# Altium integrated library TI Data Converters Digital to Analog Converter.IntLib: 1533 symbols (part 35 of 99)
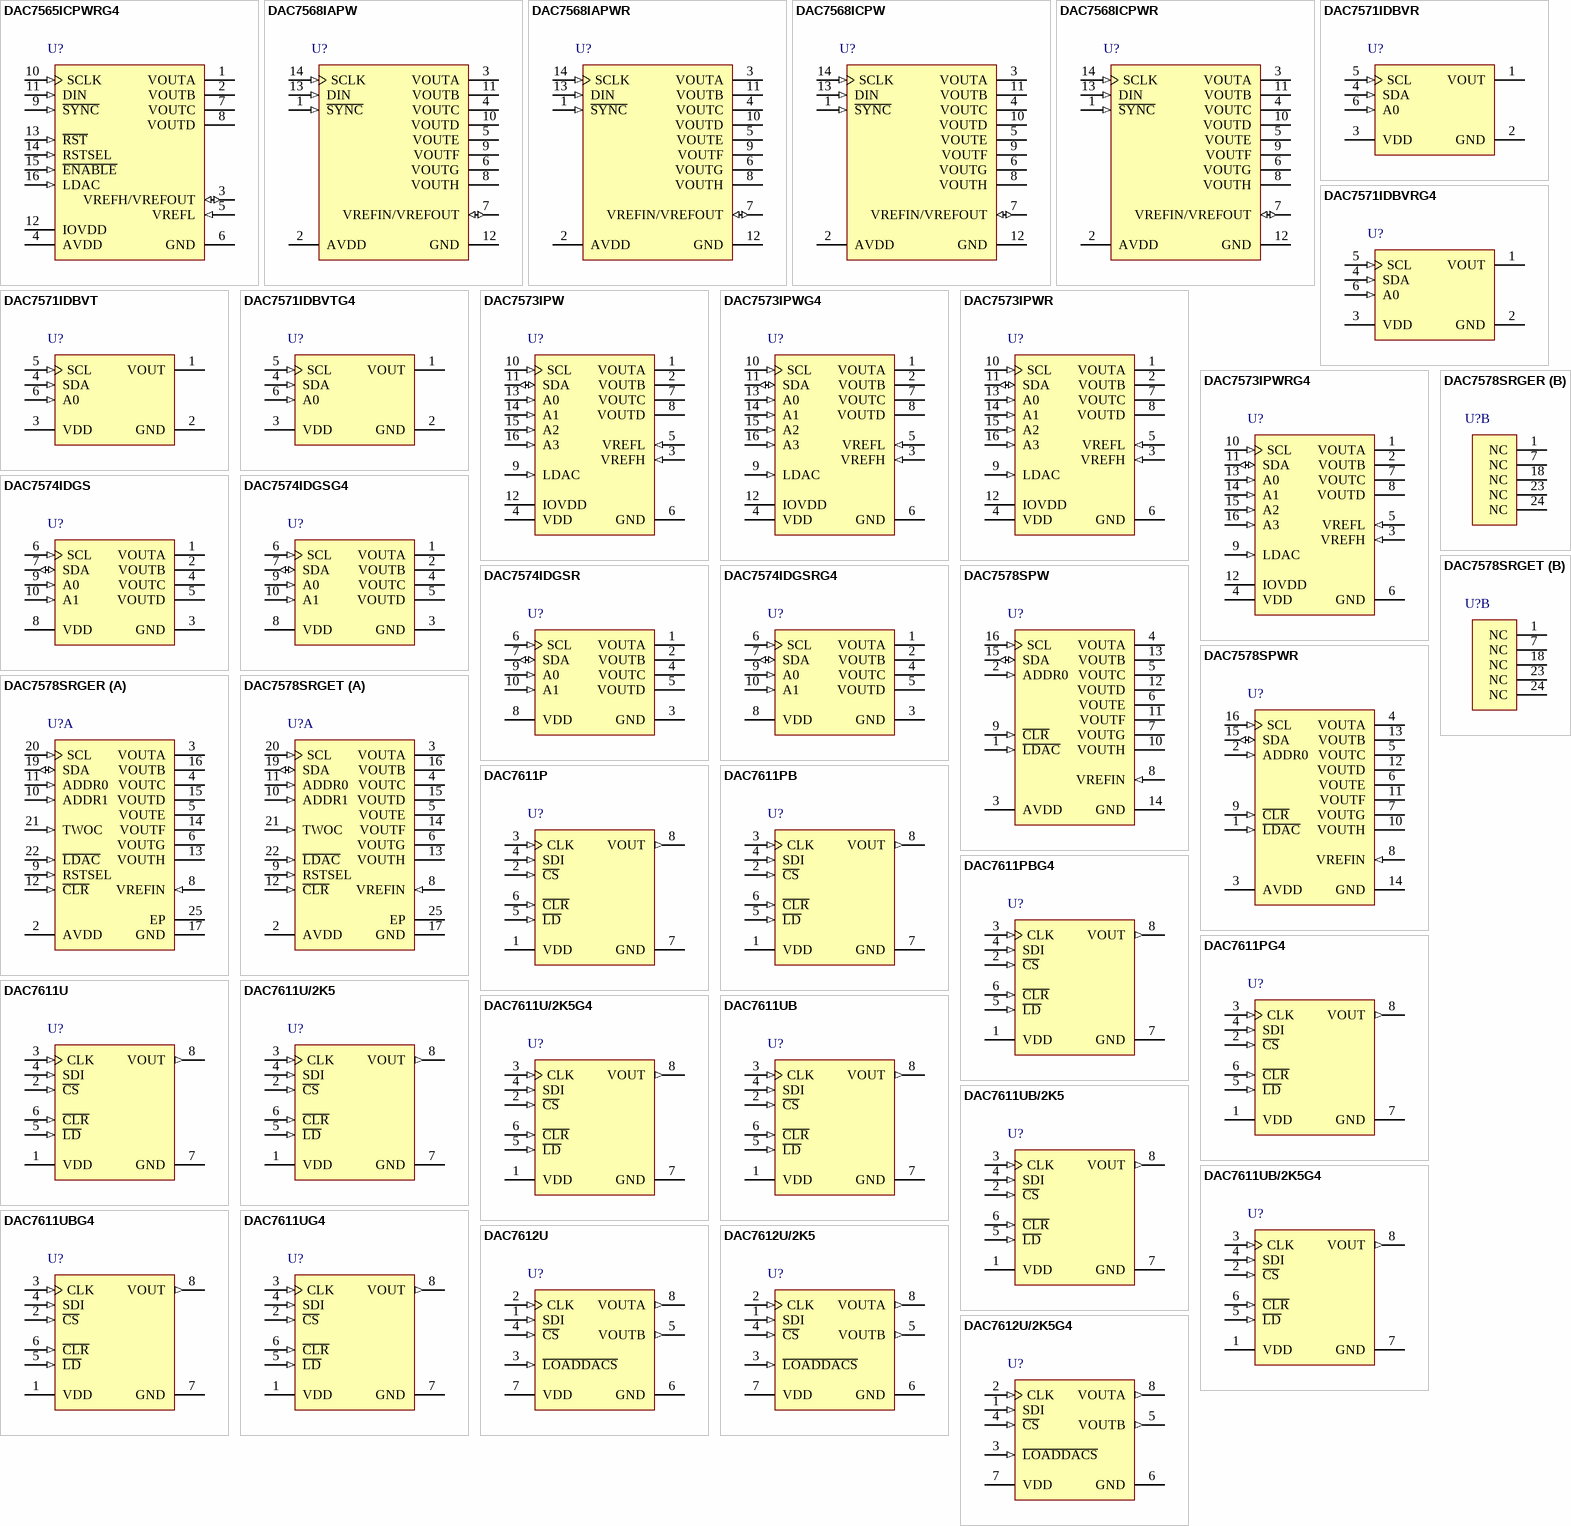
[diagram p107: symbols DAC7565ICPWRG4 to DAC7612U/2K5G4]

## DAC7573IPWRG4
designator U?
Quad, 12-Bit, 10 us, DAC with I2C Digital Interface, -40 to 85 degC, 16-pin SOP (PW16), Green (RoHS & no Sb/Br); Manufacturer: Texas Instruments; PartNumber: DAC7573IPWRG4; DAC Channels: 4; DNL(Max)(+/-LSB): 1; INL(Max)(+/-LSB): 8; Interface: Serial I2C; Power Consumption(Typ)(mW): 1.8; Resolution(Bits): 12; Settling Time(us): 10; SubFamily: Precision DAC (=<10MSPS); DatasheetVersion: SLAS398; PackageVersion: 4040064-4/G, 02/2011; PackageReference: PW16; PackageDescription: 16-Pin Plastic Small Outline, Body 5 x 4.4 mm, Pitch 0.65 mm; Supplier 1: Digi-Key; Supplier Part Number 1: DAC7573IPWRG4-ND; Supplier 2: Mouser; Supplier Part Number 2: 595-DAC7573IPWRG4; Eco-Plan: Green (RoHS & no Sb/Br); Mounting Technology: Surface Mount; Code_JEDEC: MO-153; ComponentLink1Description: Manufacturer URL; ComponentLink1URL: http://www.ti.com/; ComponentLink2Description: Datasheet; ComponentLink2URL: http://www.ti.com/general/docs/lit/getliterature.tsp?genericPartNumber=DAC7573&fileType=pdf; ComponentLink3Description: Package Specification; ComponentLink3URL: http://www.ti.com/lit/ml/mpds361/mpds361.pdf
footprint TI-PW16_N (SOP, 16-Leads, Body 5x4.4mm, Pitch 0.65mm, IPC Medium Density)
footprint TI-PW16_L (SOP, 16-Leads, Body 5x4.4mm, Pitch 0.65mm, IPC High Density)
footprint TI-PW16_M (SOP, 16-Leads, Body 5x4.4mm, Pitch 0.65mm, IPC Low Density)
pins: 1 VOUTA (hiz) "Analog output voltage from DAC A", 2 VOUTB (hiz) "Analog output voltage from DAC B", 3 VREFH (in) "Positive reference voltage input", 4 VDD (power) "Analog voltage supply input", 5 VREFL (in) "Negative reference voltage input", 6 GND (power) "Ground reference point for all circuitry on the part", 7 VOUTC (hiz) "Analog output voltage from DAC C", 8 VOUTD (hiz) "Analog output voltage from DAC D", 9 LDAC (in) "H/W synchronous VOUT update", 10 SCL (in) "Serial clock input", 11 SDA (io) "Serial data input", 12 IOVDD (power) "I/O voltage supply input", 13 A0 (in) "Device address select - I2C", 14 A1 (in) "Device address select - I2C", 15 A2 (in) "Device address select - Extended", 16 A3 (in) "Device address select - Extended"

## DAC7574IDGS
designator U?
12-Bit Quad Voltage Output DAC with I2C Interface, -40 to 105 degC, 10-pin SOP (DGS10), Green (RoHS & no Sb/Br); Manufacturer: Texas Instruments; PartNumber: DAC7574IDGS; DAC Channels: 4; DNL(Max)(+/-LSB): 1; INL(Max)(+/-LSB): 8; Interface: Serial I2C; Power Consumption(Typ)(mW): 0.85; Resolution(Bits): 12; Settling Time(us): 10; SubFamily: Precision DAC (=<10MSPS); DatasheetVersion: SLAS375; PackageVersion: 4073272/C, 02/2004; PackageReference: DGS10; PackageDescription: 10-Pin Plastic Small Outline, Body 3 x 3 mm, Pitch 0.5 mm; Supplier 1: Digi-Key; Supplier Part Number 1: 296-26048-5-ND; Supplier 2: Newark; Supplier Part Number 2: 73H4185; Supplier 3: Mouser; Supplier Part Number 3: 595-DAC7574IDGS; Eco-Plan: Green (RoHS & no Sb/Br); Mounting Technology: Surface Mount; Code_JEDEC: MO-153; ComponentLink1Description: Manufacturer URL; ComponentLink1URL: http://www.ti.com/; ComponentLink2Description: Datasheet; ComponentLink2URL: http://www.ti.com/general/docs/lit/getliterature.tsp?genericPartNumber=DAC7574&fileType=pdf; ComponentLink3Description: Package Specification; ComponentLink3URL: http://www.ti.com/lit/ml/mpds035b/mpds035b.pdf
footprint TI-DGS10_N (SOP, 10-Leads, Body 3x3mm, Pitch 0.5mm, IPC Medium Density)
footprint TI-DGS10_L (SOP, 10-Leads, Body 3x3mm, Pitch 0.5mm, IPC High Density)
footprint TI-DGS10_M (SOP, 10-Leads, Body 3x3mm, Pitch 0.5mm, IPC Low Density)
pins: 1 VOUTA (hiz) "Analog output voltage from DAC A", 2 VOUTB (hiz) "Analog output voltage from DAC B", 3 GND (power) "Ground reference point for all circuitry on the part", 4 VOUTC (hiz) "Analog output voltage from DAC C", 5 VOUTD (hiz) "Analog output voltage from DAC D", 6 SCL (in) "Serial clock input", 7 SDA (io) "Serial data input and output", 8 VDD (power) "Analog voltage supply input", 9 A0 (in) "Device address select - I2C", 10 A1 (in) "Device address select - I2C"

## DAC7574IDGSG4
designator U?
12-Bit Quad Voltage Output DAC with I2C Interface, -40 to 105 degC, 10-pin SOP (DGS10), Green (RoHS & no Sb/Br); Manufacturer: Texas Instruments; PartNumber: DAC7574IDGSG4; DAC Channels: 4; DNL(Max)(+/-LSB): 1; INL(Max)(+/-LSB): 8; Interface: Serial I2C; Power Consumption(Typ)(mW): 0.85; Resolution(Bits): 12; Settling Time(us): 10; SubFamily: Precision DAC (=<10MSPS); DatasheetVersion: SLAS375; PackageVersion: 4073272/C, 02/2004; PackageReference: DGS10; PackageDescription: 10-Pin Plastic Small Outline, Body 3 x 3 mm, Pitch 0.5 mm; Supplier 1: Digi-Key; Supplier Part Number 1: DAC7574IDGSG4-ND; Supplier 2: Farnell; Supplier Part Number 2: 1206855; Supplier 3: Newark; Supplier Part Number 3: 96K8419; Supplier 4: Mouser; Supplier Part Number 4: 595-DAC7574IDGSG4; Eco-Plan: Green (RoHS & no Sb/Br); Mounting Technology: Surface Mount; Code_JEDEC: MO-153; ComponentLink1Description: Manufacturer URL; ComponentLink1URL: http://www.ti.com/; ComponentLink2Description: Datasheet; ComponentLink2URL: http://www.ti.com/general/docs/lit/getliterature.tsp?genericPartNumber=DAC7574&fileType=pdf; ComponentLink3Description: Package Specification; ComponentLink3URL: http://www.ti.com/lit/ml/mpds035b/mpds035b.pdf
footprint TI-DGS10_N (SOP, 10-Leads, Body 3x3mm, Pitch 0.5mm, IPC Medium Density)
footprint TI-DGS10_L (SOP, 10-Leads, Body 3x3mm, Pitch 0.5mm, IPC High Density)
footprint TI-DGS10_M (SOP, 10-Leads, Body 3x3mm, Pitch 0.5mm, IPC Low Density)
pins: 1 VOUTA (hiz) "Analog output voltage from DAC A", 2 VOUTB (hiz) "Analog output voltage from DAC B", 3 GND (power) "Ground reference point for all circuitry on the part", 4 VOUTC (hiz) "Analog output voltage from DAC C", 5 VOUTD (hiz) "Analog output voltage from DAC D", 6 SCL (in) "Serial clock input", 7 SDA (io) "Serial data input and output", 8 VDD (power) "Analog voltage supply input", 9 A0 (in) "Device address select - I2C", 10 A1 (in) "Device address select - I2C"

## DAC7574IDGSR
designator U?
12-Bit Quad Voltage Output DAC with I2C Interface, -40 to 105 degC, 10-pin SOP (DGS10), Green (RoHS & no Sb/Br); Manufacturer: Texas Instruments; PartNumber: DAC7574IDGSR; DAC Channels: 4; DNL(Max)(+/-LSB): 1; INL(Max)(+/-LSB): 8; Interface: Serial I2C; Power Consumption(Typ)(mW): 0.85; Resolution(Bits): 12; Settling Time(us): 10; SubFamily: Precision DAC (=<10MSPS); DatasheetVersion: SLAS375; PackageVersion: 4073272/C, 02/2004; PackageReference: DGS10; PackageDescription: 10-Pin Plastic Small Outline, Body 3 x 3 mm, Pitch 0.5 mm; Supplier 1: Digi-Key; Supplier Part Number 1: 296-15227-2-ND; Supplier 2: Digi-Key; Supplier Part Number 2: 296-15227-1-ND; Supplier 3: Digi-Key; Supplier Part Number 3: 296-15227-6-ND; Supplier 4: Newark; Supplier Part Number 4: 73H4186; Supplier 5: Mouser; Supplier Part Number 5: 595-DAC7574IDGSR; Eco-Plan: Green (RoHS & no Sb/Br); Mounting Technology: Surface Mount; Code_JEDEC: MO-153; ComponentLink1Description: Manufacturer URL; ComponentLink1URL: http://www.ti.com/; ComponentLink2Description: Datasheet; ComponentLink2URL: http://www.ti.com/general/docs/lit/getliterature.tsp?genericPartNumber=DAC7574&fileType=pdf; ComponentLink3Description: Package Specification; ComponentLink3URL: http://www.ti.com/lit/ml/mpds035b/mpds035b.pdf
footprint TI-DGS10_N (SOP, 10-Leads, Body 3x3mm, Pitch 0.5mm, IPC Medium Density)
footprint TI-DGS10_L (SOP, 10-Leads, Body 3x3mm, Pitch 0.5mm, IPC High Density)
footprint TI-DGS10_M (SOP, 10-Leads, Body 3x3mm, Pitch 0.5mm, IPC Low Density)
pins: 1 VOUTA (hiz) "Analog output voltage from DAC A", 2 VOUTB (hiz) "Analog output voltage from DAC B", 3 GND (power) "Ground reference point for all circuitry on the part", 4 VOUTC (hiz) "Analog output voltage from DAC C", 5 VOUTD (hiz) "Analog output voltage from DAC D", 6 SCL (in) "Serial clock input", 7 SDA (io) "Serial data input and output", 8 VDD (power) "Analog voltage supply input", 9 A0 (in) "Device address select - I2C", 10 A1 (in) "Device address select - I2C"

## DAC7574IDGSRG4
designator U?
12-Bit Quad Voltage Output DAC with I2C Interface, -40 to 105 degC, 10-pin SOP (DGS10), Green (RoHS & no Sb/Br); Manufacturer: Texas Instruments; PartNumber: DAC7574IDGSRG4; DAC Channels: 4; DNL(Max)(+/-LSB): 1; INL(Max)(+/-LSB): 8; Interface: Serial I2C; Power Consumption(Typ)(mW): 0.85; Resolution(Bits): 12; Settling Time(us): 10; SubFamily: Precision DAC (=<10MSPS); DatasheetVersion: SLAS375; PackageVersion: 4073272/C, 02/2004; PackageReference: DGS10; PackageDescription: 10-Pin Plastic Small Outline, Body 3 x 3 mm, Pitch 0.5 mm; Supplier 1: Digi-Key; Supplier Part Number 1: DAC7574IDGSRG4-ND; Supplier 2: Mouser; Supplier Part Number 2: 595-DAC7574IDGSRG4; Eco-Plan: Green (RoHS & no Sb/Br); Mounting Technology: Surface Mount; Code_JEDEC: MO-153; ComponentLink1Description: Manufacturer URL; ComponentLink1URL: http://www.ti.com/; ComponentLink2Description: Datasheet; ComponentLink2URL: http://www.ti.com/general/docs/lit/getliterature.tsp?genericPartNumber=DAC7574&fileType=pdf; ComponentLink3Description: Package Specification; ComponentLink3URL: http://www.ti.com/lit/ml/mpds035b/mpds035b.pdf
footprint TI-DGS10_N (SOP, 10-Leads, Body 3x3mm, Pitch 0.5mm, IPC Medium Density)
footprint TI-DGS10_L (SOP, 10-Leads, Body 3x3mm, Pitch 0.5mm, IPC High Density)
footprint TI-DGS10_M (SOP, 10-Leads, Body 3x3mm, Pitch 0.5mm, IPC Low Density)
pins: 1 VOUTA (hiz) "Analog output voltage from DAC A", 2 VOUTB (hiz) "Analog output voltage from DAC B", 3 GND (power) "Ground reference point for all circuitry on the part", 4 VOUTC (hiz) "Analog output voltage from DAC C", 5 VOUTD (hiz) "Analog output voltage from DAC D", 6 SCL (in) "Serial clock input", 7 SDA (io) "Serial data input and output", 8 VDD (power) "Analog voltage supply input", 9 A0 (in) "Device address select - I2C", 10 A1 (in) "Device address select - I2C"

## DAC7578SPW
designator U?
12-Bit, Octal Channel, Ultra-Low Glitch, Voltage Output, 2-Wire Interface DAC, -40 to 125 degC, 16-pin SOP (PW16), Green (RoHS & no Sb/Br); Manufacturer: Texas Instruments; PartNumber: DAC7578SPW; DAC Channels: 8; DNL(Max)(+/-LSB): 0.25; INL(Max)(+/-LSB): 1; Interface: Serial I2C; Power Consumption(Typ)(mW): 3.67; Resolution(Bits): 12; Settling Time(us): 7; SubFamily: Precision DAC (=<10MSPS); DatasheetVersion: SBAS496A; PackageVersion: 4040064-4/G, 02/2011; PackageReference: PW16; PackageDescription: 16-Pin Plastic Small Outline, Body 5 x 4.4 mm, Pitch 0.65 mm; Supplier 1: Digi-Key; Supplier Part Number 1: 296-27740-5-ND; Supplier 2: Farnell; Supplier Part Number 2: 1855108; Supplier 3: Newark; Supplier Part Number 3: 23T0808; Supplier 4: Newark; Supplier Part Number 4: 01T0033; Supplier 5: Mouser; Supplier Part Number 5: 595-DAC7578SPW; Eco-Plan: Green (RoHS & no Sb/Br); Mounting Technology: Surface Mount; Code_JEDEC: MO-153; ComponentLink1Description: Manufacturer URL; ComponentLink1URL: http://www.ti.com/; ComponentLink2Description: Datasheet; ComponentLink2URL: http://www.ti.com/general/docs/lit/getliterature.tsp?genericPartNumber=DAC7578&fileType=pdf; ComponentLink3Description: Package Specification; ComponentLink3URL: http://www.ti.com/lit/ml/mpds361/mpds361.pdf
footprint TI-PW16_N (SOP, 16-Leads, Body 5x4.4mm, Pitch 0.65mm, IPC Medium Density)
footprint TI-PW16_L (SOP, 16-Leads, Body 5x4.4mm, Pitch 0.65mm, IPC High Density)
footprint TI-PW16_M (SOP, 16-Leads, Body 5x4.4mm, Pitch 0.65mm, IPC Low Density)
pins: 1 ~{LDAC} (in) "Load DACs", 2 ADDR0 (in) "3-state address input", 3 AVDD (power) "Power-supply input, 2.7V to 5.5V", 4 VOUTA (hiz) "Analog output voltage from DAC A", 5 VOUTC (hiz) "Analog output voltage from DAC C", 6 VOUTE (hiz) "Analog output voltage from DAC E", 7 VOUTG (hiz) "Analog output voltage from DAC G", 8 VREFIN (in) "Positive reference input", 9 ~{CLR} (in) "Asynchronous clear input", 10 VOUTH (hiz) "Analog output voltage from DAC H", 11 VOUTF (hiz) "Analog output voltage from DAC F", 12 VOUTD (hiz) "Analog output voltage from DAC D", 13 VOUTB (hiz) "Analog output voltage from DAC B", 14 GND (power) "Ground reference point for all circuitry on the device", 15 SDA (io) "Serial data input. Data are clocked into or out of the input register. This pin is a bidirectional, open-drain data line that should be connected to the supply voltage with an external pull-up resistor.", 16 SCL (in) "Serial clock input. Data can be transferred at rates up to 3.4MHz. Schmitt-trigger logic input."

## DAC7578SPWR
designator U?
12-Bit, Octal Channel, Ultra-Low Glitch, Voltage Output, 2-Wire Interface DAC, -40 to 125 degC, 16-pin SOP (PW16), Green (RoHS & no Sb/Br); Manufacturer: Texas Instruments; PartNumber: DAC7578SPWR; DAC Channels: 8; DNL(Max)(+/-LSB): 0.25; INL(Max)(+/-LSB): 1; Interface: Serial I2C; Power Consumption(Typ)(mW): 3.67; Resolution(Bits): 12; Settling Time(us): 7; SubFamily: Precision DAC (=<10MSPS); DatasheetVersion: SBAS496A; PackageVersion: 4040064-4/G, 02/2011; PackageReference: PW16; PackageDescription: 16-Pin Plastic Small Outline, Body 5 x 4.4 mm, Pitch 0.65 mm; Supplier 1: Digi-Key; Supplier Part Number 1: DAC7578SPWR-ND; Supplier 2: Farnell; Supplier Part Number 2: 1854520; Supplier 3: Newark; Supplier Part Number 3: 01T0034; Supplier 4: Mouser; Supplier Part Number 4: 595-DAC7578SPWR; Eco-Plan: Green (RoHS & no Sb/Br); Mounting Technology: Surface Mount; Code_JEDEC: MO-153; ComponentLink1Description: Manufacturer URL; ComponentLink1URL: http://www.ti.com/; ComponentLink2Description: Datasheet; ComponentLink2URL: http://www.ti.com/general/docs/lit/getliterature.tsp?genericPartNumber=DAC7578&fileType=pdf; ComponentLink3Description: Package Specification; ComponentLink3URL: http://www.ti.com/lit/ml/mpds361/mpds361.pdf
footprint TI-PW16_N (SOP, 16-Leads, Body 5x4.4mm, Pitch 0.65mm, IPC Medium Density)
footprint TI-PW16_L (SOP, 16-Leads, Body 5x4.4mm, Pitch 0.65mm, IPC High Density)
footprint TI-PW16_M (SOP, 16-Leads, Body 5x4.4mm, Pitch 0.65mm, IPC Low Density)
pins: 1 ~{LDAC} (in) "Load DACs", 2 ADDR0 (in) "3-state address input", 3 AVDD (power) "Power-supply input, 2.7V to 5.5V", 4 VOUTA (hiz) "Analog output voltage from DAC A", 5 VOUTC (hiz) "Analog output voltage from DAC C", 6 VOUTE (hiz) "Analog output voltage from DAC E", 7 VOUTG (hiz) "Analog output voltage from DAC G", 8 VREFIN (in) "Positive reference input", 9 ~{CLR} (in) "Asynchronous clear input", 10 VOUTH (hiz) "Analog output voltage from DAC H", 11 VOUTF (hiz) "Analog output voltage from DAC F", 12 VOUTD (hiz) "Analog output voltage from DAC D", 13 VOUTB (hiz) "Analog output voltage from DAC B", 14 GND (power) "Ground reference point for all circuitry on the device", 15 SDA (io) "Serial data input. Data are clocked into or out of the input register. This pin is a bidirectional, open-drain data line that should be connected to the supply voltage with an external pull-up resistor.", 16 SCL (in) "Serial clock input. Data can be transferred at rates up to 3.4MHz. Schmitt-trigger logic input."

## DAC7578SRGER
designator U?
12-Bit, Octal Channel, Ultra-Low Glitch, Voltage Output, 2-Wire Interface DAC, -40 to 125 degC, 24-pin QFN (RGE24), Green (RoHS & no Sb/Br); Manufacturer: Texas Instruments; PartNumber: DAC7578SRGER; DAC Channels: 8; DNL(Max)(+/-LSB): 0.25; INL(Max)(+/-LSB): 1; Interface: Serial I2C; Power Consumption(Typ)(mW): 3.67; Resolution(Bits): 12; Settling Time(us): 7; SubFamily: Precision DAC (=<10MSPS); DatasheetVersion: SBAS496A; PackageVersion: 4204104/G, 07/2011; PackageReference: RGE24-2700X2700TP; PackageDescription: 24-Pin Plastic Flat Pack, Body 4 x 4 mm, Pitch 0.5 mm; Supplier 1: Digi-Key; Supplier Part Number 1: DAC7578SRGER-ND; Supplier 2: Mouser; Supplier Part Number 2: 595-DAC7578SRGER; Eco-Plan: Green (RoHS & no Sb/Br); Mounting Technology: Surface Mount; Code_JEDEC: MO-220; ComponentLink1Description: Manufacturer URL; ComponentLink1URL: http://www.ti.com/; ComponentLink2Description: Datasheet; ComponentLink2URL: http://www.ti.com/general/docs/lit/getliterature.tsp?genericPartNumber=DAC7578&fileType=pdf; ComponentLink3Description: Package Specification; ComponentLink3URL: http://www.ti.com/litv/pdf/mpqf124f
footprint TI-RGE24-2700X2700TP_V (QFN, 24-Leads, Body 4x4mm, Pitch 0.5mm, Thermal Pad 2.7x2.7mm)
part A pins: 2 AVDD (power) "Power-supply input, 2.7V to 5.5V", 3 VOUTA (hiz) "Analog output voltage from DAC A", 4 VOUTC (hiz) "Analog output voltage from DAC C", 5 VOUTE (hiz) "Analog output voltage from DAC E", 6 VOUTG (hiz) "Analog output voltage from DAC G", 8 VREFIN (in) "Positive reference input", 9 RSTSEL (in) "Reset select pin. RSTSEL high resets device to mid-scale; RSTSEL low resets device to zero-scale.", 10 ADDR1 (in) "3-state address input", 11 ADDR0 (in) "3-state address input", 12 ~{CLR} (in) "Asynchronous clear input", 13 VOUTH (hiz) "Analog output voltage from DAC H", 14 VOUTF (hiz) "Analog output voltage from DAC F", 15 VOUTD (hiz) "Analog output voltage from DAC D", 16 VOUTB (hiz) "Analog output voltage from DAC B", 17 GND (power) "Ground reference point for all circuitry on the device", 19 SDA (io) "Serial data input. Data are clocked into or out of the input register. This pin is a bidirectional, open-drain data line that should be connected to the supply voltage with an external pull-up resistor.", 20 SCL (in) "Serial clock input. Data can be transferred at rates up to 3.4MHz. Schmitt-trigger logic input.", 21 TWOC (in) "Twos complement select. If the TWOC pin is pulled high, the DAC registers use twos complement format; if TWOC is pulled low, the DAC registers use straight binary format.", 22 ~{LDAC} (in) "Load DACs", 25 EP (power) "It is recommended to connect the thermal pad to GND for better thermal dissipation."
part B pins: 1 NC "Not internally connected", 7 NC "Not internally connected", 18 NC "Not internally connected", 23 NC "Not internally connected", 24 NC "Not internally connected"

## DAC7578SRGET
designator U?
12-Bit, Octal Channel, Ultra-Low Glitch, Voltage Output, 2-Wire Interface DAC, -40 to 125 degC, 24-pin QFN (RGE24), Green (RoHS & no Sb/Br); Manufacturer: Texas Instruments; PartNumber: DAC7578SRGET; DAC Channels: 8; DNL(Max)(+/-LSB): 0.25; INL(Max)(+/-LSB): 1; Interface: Serial I2C; Power Consumption(Typ)(mW): 3.67; Resolution(Bits): 12; Settling Time(us): 7; SubFamily: Precision DAC (=<10MSPS); DatasheetVersion: SBAS496A; PackageVersion: 4204104/G, 07/2011; PackageReference: RGE24-2700X2700TP; PackageDescription: 24-Pin Plastic Flat Pack, Body 4 x 4 mm, Pitch 0.5 mm; Supplier 1: Digi-Key; Supplier Part Number 1: 296-27741-2-ND; Supplier 2: Digi-Key; Supplier Part Number 2: 296-27741-1-ND; Supplier 3: Digi-Key; Supplier Part Number 3: 296-27741-6-ND; Supplier 4: Farnell; Supplier Part Number 4: 1862572; Supplier 5: Newark; Supplier Part Number 5: 91R0760; Supplier 6: Mouser; Supplier Part Number 6: 595-DAC7578SRGET; Eco-Plan: Green (RoHS & no Sb/Br); Mounting Technology: Surface Mount; Code_JEDEC: MO-220; ComponentLink1Description: Manufacturer URL; ComponentLink1URL: http://www.ti.com/; ComponentLink2Description: Datasheet; ComponentLink2URL: http://www.ti.com/general/docs/lit/getliterature.tsp?genericPartNumber=DAC7578&fileType=pdf; ComponentLink3Description: Package Specification; ComponentLink3URL: http://www.ti.com/litv/pdf/mpqf124f
footprint TI-RGE24-2700X2700TP_V (QFN, 24-Leads, Body 4x4mm, Pitch 0.5mm, Thermal Pad 2.7x2.7mm)
part A pins: 2 AVDD (power) "Power-supply input, 2.7V to 5.5V", 3 VOUTA (hiz) "Analog output voltage from DAC A", 4 VOUTC (hiz) "Analog output voltage from DAC C", 5 VOUTE (hiz) "Analog output voltage from DAC E", 6 VOUTG (hiz) "Analog output voltage from DAC G", 8 VREFIN (in) "Positive reference input", 9 RSTSEL (in) "Reset select pin. RSTSEL high resets device to mid-scale; RSTSEL low resets device to zero-scale.", 10 ADDR1 (in) "3-state address input", 11 ADDR0 (in) "3-state address input", 12 ~{CLR} (in) "Asynchronous clear input", 13 VOUTH (hiz) "Analog output voltage from DAC H", 14 VOUTF (hiz) "Analog output voltage from DAC F", 15 VOUTD (hiz) "Analog output voltage from DAC D", 16 VOUTB (hiz) "Analog output voltage from DAC B", 17 GND (power) "Ground reference point for all circuitry on the device", 19 SDA (io) "Serial data input. Data are clocked into or out of the input register. This pin is a bidirectional, open-drain data line that should be connected to the supply voltage with an external pull-up resistor.", 20 SCL (in) "Serial clock input. Data can be transferred at rates up to 3.4MHz. Schmitt-trigger logic input.", 21 TWOC (in) "Twos complement select. If the TWOC pin is pulled high, the DAC registers use twos complement format; if TWOC is pulled low, the DAC registers use straight binary format.", 22 ~{LDAC} (in) "Load DACs", 25 EP (power) "It is recommended to connect the thermal pad to GND for better thermal dissipation."
part B pins: 1 NC "Not internally connected", 7 NC "Not internally connected", 18 NC "Not internally connected", 23 NC "Not internally connected", 24 NC "Not internally connected"

## DAC7611P
designator U?
12-Bit Serial Input DAC, -40 to 85 degC, 8-pin DIP (P8), Green (RoHS & no Sb/Br); Manufacturer: Texas Instruments; PartNumber: DAC7611P; DAC Channels: 1; Interface: Serial SPI; Power Consumption(Typ)(mW): 2.5; Resolution(Bits): 12; Settling Time(us): 7; SubFamily: Precision DAC (=<10MSPS); DatasheetVersion: SBAS075; PackageVersion: 4040082/E, 04/2010; PackageReference: P8; PackageDescription: 8-Pin Plastic In-Line, Body 9.59 x 6.35 mm, Pitch 2.54 mm; Supplier 1: Digi-Key; Supplier Part Number 1: DAC7611P-ND; Supplier 2: Newark; Supplier Part Number 2: 14M8157; Supplier 3: Mouser; Supplier Part Number 3: 595-DAC7611P; DNL(Max)(+/-LSB): 1; Eco-Plan: Green (RoHS & no Sb/Br); Mounting Technology: Through Hole; Code_JEDEC: MS-001; ComponentLink1Description: Manufacturer URL; ComponentLink1URL: http://www.ti.com/; ComponentLink2Description: Datasheet; ComponentLink2URL: http://www.ti.com/general/docs/lit/getliterature.tsp?genericPartNumber=DAC7611&fileType=pdf; ComponentLink3Description: Package Specification; ComponentLink3URL: http://www.ti.com/litv/pdf/mpdi001b
footprint TI-P8 (DIP, 8-Leads, Body 9.59x6.35mm, Pitch 2.54mm)
pins: 1 VDD (power) "Power Supply", 2 ~{CS} (in) "Chip Select (active LOW).", 3 CLK (in) "Synchronous Clock for the Serial Data Input.", 4 SDI (in) "Serial Data Input. Data is clocked into the internal serial register on the rising edge of CLK.", 5 ~{LD} (in) "Loads the Internal DAC Register. NOTE: The DAC register is a transparent latch and is transparent when L\D\ is LOW (regardless of the state of C\S\ or CLK).", 6 ~{CLR} (in) "Asynchronous Input to Clear the DAC Register. When C\L\R\ is strobbed LOW, the DAC register is set to 000H and the output voltage to 0V.", 7 GND (power) "Ground", 8 VOUT (out) "Voltage Output. Fixed output voltage range of approximately 0V to 4.095V (1mV/LSB). The internal reference maintains this output range over time,temperature, and power supply variations (within the values defined in the (See Datasheet)"

## DAC7611PB
designator U?
12-Bit Serial Input DAC, -40 to 85 degC, 8-pin DIP (P8), Green (RoHS & no Sb/Br); Manufacturer: Texas Instruments; PartNumber: DAC7611PB; DAC Channels: 1; Interface: Serial SPI; Power Consumption(Typ)(mW): 2.5; Resolution(Bits): 12; Settling Time(us): 7; SubFamily: Precision DAC (=<10MSPS); DatasheetVersion: SBAS075; PackageVersion: 4040082/E, 04/2010; PackageReference: P8; PackageDescription: 8-Pin Plastic In-Line, Body 9.59 x 6.35 mm, Pitch 2.54 mm; Supplier 1: Digi-Key; Supplier Part Number 1: DAC7611PB-ND; Supplier 2: Newark; Supplier Part Number 2: 11R7900; Supplier 3: Mouser; Supplier Part Number 3: 595-DAC7611PB; DNL(Max)(+/-LSB): 1; Eco-Plan: Green (RoHS & no Sb/Br); Mounting Technology: Through Hole; Code_JEDEC: MS-001; ComponentLink1Description: Manufacturer URL; ComponentLink1URL: http://www.ti.com/; ComponentLink2Description: Datasheet; ComponentLink2URL: http://www.ti.com/general/docs/lit/getliterature.tsp?genericPartNumber=DAC7611&fileType=pdf; ComponentLink3Description: Package Specification; ComponentLink3URL: http://www.ti.com/litv/pdf/mpdi001b
footprint TI-P8 (DIP, 8-Leads, Body 9.59x6.35mm, Pitch 2.54mm)
pins: 1 VDD (power) "Power Supply", 2 ~{CS} (in) "Chip Select (active LOW).", 3 CLK (in) "Synchronous Clock for the Serial Data Input.", 4 SDI (in) "Serial Data Input. Data is clocked into the internal serial register on the rising edge of CLK.", 5 ~{LD} (in) "Loads the Internal DAC Register. NOTE: The DAC register is a transparent latch and is transparent when L\D\ is LOW (regardless of the state of C\S\ or CLK).", 6 ~{CLR} (in) "Asynchronous Input to Clear the DAC Register. When C\L\R\ is strobbed LOW, the DAC register is set to 000H and the output voltage to 0V.", 7 GND (power) "Ground", 8 VOUT (out) "Voltage Output. Fixed output voltage range of approximately 0V to 4.095V (1mV/LSB). The internal reference maintains this output range over time,temperature, and power supply variations (within the values defined in the (See Datasheet)"

## DAC7611PBG4
designator U?
12-Bit Serial Input DAC, -40 to 85 degC, 8-pin DIP (P8), Green (RoHS & no Sb/Br); Manufacturer: Texas Instruments; PartNumber: DAC7611PBG4; DAC Channels: 1; Interface: Serial SPI; Power Consumption(Typ)(mW): 2.5; Resolution(Bits): 12; Settling Time(us): 7; SubFamily: Precision DAC (=<10MSPS); DatasheetVersion: SBAS075; PackageVersion: 4040082/E, 04/2010; PackageReference: P8; PackageDescription: 8-Pin Plastic In-Line, Body 9.59 x 6.35 mm, Pitch 2.54 mm; Supplier 1: Digi-Key; Supplier Part Number 1: DAC7611PBG4-ND; Supplier 2: Mouser; Supplier Part Number 2: 595-DAC7611PBG4; DNL(Max)(+/-LSB): 1; Eco-Plan: Green (RoHS & no Sb/Br); Mounting Technology: Through Hole; Code_JEDEC: MS-001; ComponentLink1Description: Manufacturer URL; ComponentLink1URL: http://www.ti.com/; ComponentLink2Description: Datasheet; ComponentLink2URL: http://www.ti.com/general/docs/lit/getliterature.tsp?genericPartNumber=DAC7611&fileType=pdf; ComponentLink3Description: Package Specification; ComponentLink3URL: http://www.ti.com/litv/pdf/mpdi001b
footprint TI-P8 (DIP, 8-Leads, Body 9.59x6.35mm, Pitch 2.54mm)
pins: 1 VDD (power) "Power Supply", 2 ~{CS} (in) "Chip Select (active LOW).", 3 CLK (in) "Synchronous Clock for the Serial Data Input.", 4 SDI (in) "Serial Data Input. Data is clocked into the internal serial register on the rising edge of CLK.", 5 ~{LD} (in) "Loads the Internal DAC Register. NOTE: The DAC register is a transparent latch and is transparent when L\D\ is LOW (regardless of the state of C\S\ or CLK).", 6 ~{CLR} (in) "Asynchronous Input to Clear the DAC Register. When C\L\R\ is strobbed LOW, the DAC register is set to 000H and the output voltage to 0V.", 7 GND (power) "Ground", 8 VOUT (out) "Voltage Output. Fixed output voltage range of approximately 0V to 4.095V (1mV/LSB). The internal reference maintains this output range over time,temperature, and power supply variations (within the values defined in the (See Datasheet)"

## DAC7611PG4
designator U?
12-Bit Serial Input DAC, -40 to 85 degC, 8-pin DIP (P8), Green (RoHS & no Sb/Br); Manufacturer: Texas Instruments; PartNumber: DAC7611PG4; DAC Channels: 1; Interface: Serial SPI; Power Consumption(Typ)(mW): 2.5; Resolution(Bits): 12; Settling Time(us): 7; SubFamily: Precision DAC (=<10MSPS); DatasheetVersion: SBAS075; PackageVersion: 4040082/E, 04/2010; PackageReference: P8; PackageDescription: 8-Pin Plastic In-Line, Body 9.59 x 6.35 mm, Pitch 2.54 mm; Supplier 1: Digi-Key; Supplier Part Number 1: DAC7611PG4-ND; Supplier 2: Mouser; Supplier Part Number 2: 595-DAC7611PG4; DNL(Max)(+/-LSB): 1; Eco-Plan: Green (RoHS & no Sb/Br); Mounting Technology: Through Hole; Code_JEDEC: MS-001; ComponentLink1Description: Manufacturer URL; ComponentLink1URL: http://www.ti.com/; ComponentLink2Description: Datasheet; ComponentLink2URL: http://www.ti.com/general/docs/lit/getliterature.tsp?genericPartNumber=DAC7611&fileType=pdf; ComponentLink3Description: Package Specification; ComponentLink3URL: http://www.ti.com/litv/pdf/mpdi001b
footprint TI-P8 (DIP, 8-Leads, Body 9.59x6.35mm, Pitch 2.54mm)
pins: 1 VDD (power) "Power Supply", 2 ~{CS} (in) "Chip Select (active LOW).", 3 CLK (in) "Synchronous Clock for the Serial Data Input.", 4 SDI (in) "Serial Data Input. Data is clocked into the internal serial register on the rising edge of CLK.", 5 ~{LD} (in) "Loads the Internal DAC Register. NOTE: The DAC register is a transparent latch and is transparent when L\D\ is LOW (regardless of the state of C\S\ or CLK).", 6 ~{CLR} (in) "Asynchronous Input to Clear the DAC Register. When C\L\R\ is strobbed LOW, the DAC register is set to 000H and the output voltage to 0V.", 7 GND (power) "Ground", 8 VOUT (out) "Voltage Output. Fixed output voltage range of approximately 0V to 4.095V (1mV/LSB). The internal reference maintains this output range over time,temperature, and power supply variations (within the values defined in the (See Datasheet)"

## DAC7611U
designator U?
12-Bit Serial Input DAC, -40 to 85 degC, 8-pin SOIC (D8), Green (RoHS & no Sb/Br); Manufacturer: Texas Instruments; PartNumber: DAC7611U; DAC Channels: 1; Interface: Serial SPI; Power Consumption(Typ)(mW): 2.5; Resolution(Bits): 12; Settling Time(us): 7; SubFamily: Precision DAC (=<10MSPS); DatasheetVersion: SBAS075; PackageVersion: 4040047-3/M, 06/2011; PackageReference: D8; PackageDescription: 8-Pin Plastic Small Outline, Body 4.9 x 3.9 mm, Pitch 1.27 mm; Supplier 1: Digi-Key; Supplier Part Number 1: DAC7611U-ND; Supplier 2: Farnell; Supplier Part Number 2: 1097419; Supplier 3: Newark; Supplier Part Number 3: 96K4484; Supplier 4: Mouser; Supplier Part Number 4: 595-DAC7611U; DNL(Max)(+/-LSB): 1; Eco-Plan: Green (RoHS & no Sb/Br); Mounting Technology: Surface Mount; Code_JEDEC: MS-012; ComponentLink1Description: Manufacturer URL; ComponentLink1URL: http://www.ti.com/; ComponentLink2Description: Datasheet; ComponentLink2URL: http://www.ti.com/general/docs/lit/getliterature.tsp?genericPartNumber=DAC7611&fileType=pdf; ComponentLink3Description: Package Specification; ComponentLink3URL: http://www.ti.com/litv/pdf/msoi002j
footprint TI-D8_N (SOIC, 8-Leads, Body 4.9x3.9mm, Pitch 1.27mm, IPC Medium Density)
footprint TI-D8_L (SOIC, 8-Leads, Body 4.9x3.9mm, Pitch 1.27mm, IPC High Density)
footprint TI-D8_M (SOIC, 8-Leads, Body 4.9x3.9mm, Pitch 1.27mm, IPC Low Density)
pins: 1 VDD (power) "Power Supply", 2 ~{CS} (in) "Chip Select (active LOW).", 3 CLK (in) "Synchronous Clock for the Serial Data Input.", 4 SDI (in) "Serial Data Input. Data is clocked into the internal serial register on the rising edge of CLK.", 5 ~{LD} (in) "Loads the Internal DAC Register. NOTE: The DAC register is a transparent latch and is transparent when L\D\ is LOW (regardless of the state of C\S\ or CLK).", 6 ~{CLR} (in) "Asynchronous Input to Clear the DAC Register. When C\L\R\ is strobbed LOW, the DAC register is set to 000H and the output voltage to 0V.", 7 GND (power) "Ground", 8 VOUT (out) "Voltage Output. Fixed output voltage range of approximately 0V to 4.095V (1mV/LSB). The internal reference maintains this output range over time,temperature, and power supply variations (within the values defined in the (See Datasheet)"

## DAC7611U/2K5
designator U?
12-Bit Serial Input DAC, -40 to 85 degC, 8-pin SOIC (D8), Green (RoHS & no Sb/Br); Manufacturer: Texas Instruments; PartNumber: DAC7611U/2K5; DAC Channels: 1; Interface: Serial SPI; Power Consumption(Typ)(mW): 2.5; Resolution(Bits): 12; Settling Time(us): 7; SubFamily: Precision DAC (=<10MSPS); DatasheetVersion: SBAS075; PackageVersion: 4040047-3/M, 06/2011; PackageReference: D8; PackageDescription: 8-Pin Plastic Small Outline, Body 4.9 x 3.9 mm, Pitch 1.27 mm; Supplier 1: Digi-Key; Supplier Part Number 1: DAC7611U/2K5-ND; Supplier 2: Mouser; Supplier Part Number 2: 595-DAC7611U/2K5; DNL(Max)(+/-LSB): 1; Eco-Plan: Green (RoHS & no Sb/Br); Mounting Technology: Surface Mount; Code_JEDEC: MS-012; ComponentLink1Description: Manufacturer URL; ComponentLink1URL: http://www.ti.com/; ComponentLink2Description: Datasheet; ComponentLink2URL: http://www.ti.com/general/docs/lit/getliterature.tsp?genericPartNumber=DAC7611&fileType=pdf; ComponentLink3Description: Package Specification; ComponentLink3URL: http://www.ti.com/litv/pdf/msoi002j
footprint TI-D8_N (SOIC, 8-Leads, Body 4.9x3.9mm, Pitch 1.27mm, IPC Medium Density)
footprint TI-D8_L (SOIC, 8-Leads, Body 4.9x3.9mm, Pitch 1.27mm, IPC High Density)
footprint TI-D8_M (SOIC, 8-Leads, Body 4.9x3.9mm, Pitch 1.27mm, IPC Low Density)
pins: 1 VDD (power) "Power Supply", 2 ~{CS} (in) "Chip Select (active LOW).", 3 CLK (in) "Synchronous Clock for the Serial Data Input.", 4 SDI (in) "Serial Data Input. Data is clocked into the internal serial register on the rising edge of CLK.", 5 ~{LD} (in) "Loads the Internal DAC Register. NOTE: The DAC register is a transparent latch and is transparent when L\D\ is LOW (regardless of the state of C\S\ or CLK).", 6 ~{CLR} (in) "Asynchronous Input to Clear the DAC Register. When C\L\R\ is strobbed LOW, the DAC register is set to 000H and the output voltage to 0V.", 7 GND (power) "Ground", 8 VOUT (out) "Voltage Output. Fixed output voltage range of approximately 0V to 4.095V (1mV/LSB). The internal reference maintains this output range over time,temperature, and power supply variations (within the values defined in the (See Datasheet)"

## DAC7611U/2K5G4
designator U?
12-Bit Serial Input DAC, -40 to 85 degC, 8-pin SOIC (D8), Green (RoHS & no Sb/Br); Manufacturer: Texas Instruments; PartNumber: DAC7611U/2K5G4; DAC Channels: 1; Interface: Serial SPI; Power Consumption(Typ)(mW): 2.5; Resolution(Bits): 12; Settling Time(us): 7; SubFamily: Precision DAC (=<10MSPS); DatasheetVersion: SBAS075; PackageVersion: 4040047-3/M, 06/2011; PackageReference: D8; PackageDescription: 8-Pin Plastic Small Outline, Body 4.9 x 3.9 mm, Pitch 1.27 mm; Supplier 1: Digi-Key; Supplier Part Number 1: DAC7611U/2K5G4-ND; Supplier 2: Mouser; Supplier Part Number 2: 595-DAC7611U/2K5G4; DNL(Max)(+/-LSB): 1; Eco-Plan: Green (RoHS & no Sb/Br); Mounting Technology: Surface Mount; Code_JEDEC: MS-012; ComponentLink1Description: Manufacturer URL; ComponentLink1URL: http://www.ti.com/; ComponentLink2Description: Datasheet; ComponentLink2URL: http://www.ti.com/general/docs/lit/getliterature.tsp?genericPartNumber=DAC7611&fileType=pdf; ComponentLink3Description: Package Specification; ComponentLink3URL: http://www.ti.com/litv/pdf/msoi002j
footprint TI-D8_N (SOIC, 8-Leads, Body 4.9x3.9mm, Pitch 1.27mm, IPC Medium Density)
footprint TI-D8_L (SOIC, 8-Leads, Body 4.9x3.9mm, Pitch 1.27mm, IPC High Density)
footprint TI-D8_M (SOIC, 8-Leads, Body 4.9x3.9mm, Pitch 1.27mm, IPC Low Density)
pins: 1 VDD (power) "Power Supply", 2 ~{CS} (in) "Chip Select (active LOW).", 3 CLK (in) "Synchronous Clock for the Serial Data Input.", 4 SDI (in) "Serial Data Input. Data is clocked into the internal serial register on the rising edge of CLK.", 5 ~{LD} (in) "Loads the Internal DAC Register. NOTE: The DAC register is a transparent latch and is transparent when L\D\ is LOW (regardless of the state of C\S\ or CLK).", 6 ~{CLR} (in) "Asynchronous Input to Clear the DAC Register. When C\L\R\ is strobbed LOW, the DAC register is set to 000H and the output voltage to 0V.", 7 GND (power) "Ground", 8 VOUT (out) "Voltage Output. Fixed output voltage range of approximately 0V to 4.095V (1mV/LSB). The internal reference maintains this output range over time,temperature, and power supply variations (within the values defined in the (See Datasheet)"

## DAC7611UB
designator U?
12-Bit Serial Input DAC, -40 to 85 degC, 8-pin SOIC (D8), Green (RoHS & no Sb/Br); Manufacturer: Texas Instruments; PartNumber: DAC7611UB; DAC Channels: 1; Interface: Serial SPI; Power Consumption(Typ)(mW): 2.5; Resolution(Bits): 12; Settling Time(us): 7; SubFamily: Precision DAC (=<10MSPS); DatasheetVersion: SBAS075; PackageVersion: 4040047-3/M, 06/2011; PackageReference: D8; PackageDescription: 8-Pin Plastic Small Outline, Body 4.9 x 3.9 mm, Pitch 1.27 mm; Supplier 1: Digi-Key; Supplier Part Number 1: DAC7611UB-ND; Supplier 2: Farnell; Supplier Part Number 2: 1212270; Supplier 3: Newark; Supplier Part Number 3: 96K8420; Supplier 4: Newark; Supplier Part Number 4: 35C1628; Supplier 5: Mouser; Supplier Part Number 5: 595-DAC7611UB; DNL(Max)(+/-LSB): 1; Eco-Plan: Green (RoHS & no Sb/Br); Mounting Technology: Surface Mount; Code_JEDEC: MS-012; ComponentLink1Description: Manufacturer URL; ComponentLink1URL: http://www.ti.com/; ComponentLink2Description: Datasheet; ComponentLink2URL: http://www.ti.com/general/docs/lit/getliterature.tsp?genericPartNumber=DAC7611&fileType=pdf; ComponentLink3Description: Package Specification; ComponentLink3URL: http://www.ti.com/litv/pdf/msoi002j
footprint TI-D8_N (SOIC, 8-Leads, Body 4.9x3.9mm, Pitch 1.27mm, IPC Medium Density)
footprint TI-D8_L (SOIC, 8-Leads, Body 4.9x3.9mm, Pitch 1.27mm, IPC High Density)
footprint TI-D8_M (SOIC, 8-Leads, Body 4.9x3.9mm, Pitch 1.27mm, IPC Low Density)
pins: 1 VDD (power) "Power Supply", 2 ~{CS} (in) "Chip Select (active LOW).", 3 CLK (in) "Synchronous Clock for the Serial Data Input.", 4 SDI (in) "Serial Data Input. Data is clocked into the internal serial register on the rising edge of CLK.", 5 ~{LD} (in) "Loads the Internal DAC Register. NOTE: The DAC register is a transparent latch and is transparent when L\D\ is LOW (regardless of the state of C\S\ or CLK).", 6 ~{CLR} (in) "Asynchronous Input to Clear the DAC Register. When C\L\R\ is strobbed LOW, the DAC register is set to 000H and the output voltage to 0V.", 7 GND (power) "Ground", 8 VOUT (out) "Voltage Output. Fixed output voltage range of approximately 0V to 4.095V (1mV/LSB). The internal reference maintains this output range over time,temperature, and power supply variations (within the values defined in the (See Datasheet)"

## DAC7611UB/2K5
designator U?
12-Bit Serial Input DAC, -40 to 85 degC, 8-pin SOIC (D8), Green (RoHS & no Sb/Br); Manufacturer: Texas Instruments; PartNumber: DAC7611UB/2K5; DAC Channels: 1; Interface: Serial SPI; Power Consumption(Typ)(mW): 2.5; Resolution(Bits): 12; Settling Time(us): 7; SubFamily: Precision DAC (=<10MSPS); DatasheetVersion: SBAS075; PackageVersion: 4040047-3/M, 06/2011; PackageReference: D8; PackageDescription: 8-Pin Plastic Small Outline, Body 4.9 x 3.9 mm, Pitch 1.27 mm; Supplier 1: Digi-Key; Supplier Part Number 1: DAC7611UB/2K5-ND; Supplier 2: Newark; Supplier Part Number 2: 74C9166; Supplier 3: Mouser; Supplier Part Number 3: 595-DAC7611UB/2K5; DNL(Max)(+/-LSB): 1; Eco-Plan: Green (RoHS & no Sb/Br); Mounting Technology: Surface Mount; Code_JEDEC: MS-012; ComponentLink1Description: Manufacturer URL; ComponentLink1URL: http://www.ti.com/; ComponentLink2Description: Datasheet; ComponentLink2URL: http://www.ti.com/general/docs/lit/getliterature.tsp?genericPartNumber=DAC7611&fileType=pdf; ComponentLink3Description: Package Specification; ComponentLink3URL: http://www.ti.com/litv/pdf/msoi002j
footprint TI-D8_N (SOIC, 8-Leads, Body 4.9x3.9mm, Pitch 1.27mm, IPC Medium Density)
footprint TI-D8_L (SOIC, 8-Leads, Body 4.9x3.9mm, Pitch 1.27mm, IPC High Density)
footprint TI-D8_M (SOIC, 8-Leads, Body 4.9x3.9mm, Pitch 1.27mm, IPC Low Density)
pins: 1 VDD (power) "Power Supply", 2 ~{CS} (in) "Chip Select (active LOW).", 3 CLK (in) "Synchronous Clock for the Serial Data Input.", 4 SDI (in) "Serial Data Input. Data is clocked into the internal serial register on the rising edge of CLK.", 5 ~{LD} (in) "Loads the Internal DAC Register. NOTE: The DAC register is a transparent latch and is transparent when L\D\ is LOW (regardless of the state of C\S\ or CLK).", 6 ~{CLR} (in) "Asynchronous Input to Clear the DAC Register. When C\L\R\ is strobbed LOW, the DAC register is set to 000H and the output voltage to 0V.", 7 GND (power) "Ground", 8 VOUT (out) "Voltage Output. Fixed output voltage range of approximately 0V to 4.095V (1mV/LSB). The internal reference maintains this output range over time,temperature, and power supply variations (within the values defined in the (See Datasheet)"

## DAC7611UB/2K5G4
designator U?
12-Bit Serial Input DAC, -40 to 85 degC, 8-pin SOIC (D8), Green (RoHS & no Sb/Br); Manufacturer: Texas Instruments; PartNumber: DAC7611UB/2K5G4; DAC Channels: 1; Interface: Serial SPI; Power Consumption(Typ)(mW): 2.5; Resolution(Bits): 12; Settling Time(us): 7; SubFamily: Precision DAC (=<10MSPS); DatasheetVersion: SBAS075; PackageVersion: 4040047-3/M, 06/2011; PackageReference: D8; PackageDescription: 8-Pin Plastic Small Outline, Body 4.9 x 3.9 mm, Pitch 1.27 mm; Supplier 1: Digi-Key; Supplier Part Number 1: DAC7611UB/2K5G4-ND; Supplier 2: Mouser; Supplier Part Number 2: 595-DAC7611UB/2K5G4; DNL(Max)(+/-LSB): 1; Eco-Plan: Green (RoHS & no Sb/Br); Mounting Technology: Surface Mount; Code_JEDEC: MS-012; ComponentLink1Description: Manufacturer URL; ComponentLink1URL: http://www.ti.com/; ComponentLink2Description: Datasheet; ComponentLink2URL: http://www.ti.com/general/docs/lit/getliterature.tsp?genericPartNumber=DAC7611&fileType=pdf; ComponentLink3Description: Package Specification; ComponentLink3URL: http://www.ti.com/litv/pdf/msoi002j
footprint TI-D8_N (SOIC, 8-Leads, Body 4.9x3.9mm, Pitch 1.27mm, IPC Medium Density)
footprint TI-D8_L (SOIC, 8-Leads, Body 4.9x3.9mm, Pitch 1.27mm, IPC High Density)
footprint TI-D8_M (SOIC, 8-Leads, Body 4.9x3.9mm, Pitch 1.27mm, IPC Low Density)
pins: 1 VDD (power) "Power Supply", 2 ~{CS} (in) "Chip Select (active LOW).", 3 CLK (in) "Synchronous Clock for the Serial Data Input.", 4 SDI (in) "Serial Data Input. Data is clocked into the internal serial register on the rising edge of CLK.", 5 ~{LD} (in) "Loads the Internal DAC Register. NOTE: The DAC register is a transparent latch and is transparent when L\D\ is LOW (regardless of the state of C\S\ or CLK).", 6 ~{CLR} (in) "Asynchronous Input to Clear the DAC Register. When C\L\R\ is strobbed LOW, the DAC register is set to 000H and the output voltage to 0V.", 7 GND (power) "Ground", 8 VOUT (out) "Voltage Output. Fixed output voltage range of approximately 0V to 4.095V (1mV/LSB). The internal reference maintains this output range over time,temperature, and power supply variations (within the values defined in the (See Datasheet)"

## DAC7611UBG4
designator U?
12-Bit Serial Input DAC, -40 to 85 degC, 8-pin SOIC (D8), Green (RoHS & no Sb/Br); Manufacturer: Texas Instruments; PartNumber: DAC7611UBG4; DAC Channels: 1; Interface: Serial SPI; Power Consumption(Typ)(mW): 2.5; Resolution(Bits): 12; Settling Time(us): 7; SubFamily: Precision DAC (=<10MSPS); DatasheetVersion: SBAS075; PackageVersion: 4040047-3/M, 06/2011; PackageReference: D8; PackageDescription: 8-Pin Plastic Small Outline, Body 4.9 x 3.9 mm, Pitch 1.27 mm; Supplier 1: Digi-Key; Supplier Part Number 1: DAC7611UBG4-ND; Supplier 2: Mouser; Supplier Part Number 2: 595-DAC7611UBG4; DNL(Max)(+/-LSB): 1; Eco-Plan: Green (RoHS & no Sb/Br); Mounting Technology: Surface Mount; Code_JEDEC: MS-012; ComponentLink1Description: Manufacturer URL; ComponentLink1URL: http://www.ti.com/; ComponentLink2Description: Datasheet; ComponentLink2URL: http://www.ti.com/general/docs/lit/getliterature.tsp?genericPartNumber=DAC7611&fileType=pdf; ComponentLink3Description: Package Specification; ComponentLink3URL: http://www.ti.com/litv/pdf/msoi002j
footprint TI-D8_N (SOIC, 8-Leads, Body 4.9x3.9mm, Pitch 1.27mm, IPC Medium Density)
footprint TI-D8_L (SOIC, 8-Leads, Body 4.9x3.9mm, Pitch 1.27mm, IPC High Density)
footprint TI-D8_M (SOIC, 8-Leads, Body 4.9x3.9mm, Pitch 1.27mm, IPC Low Density)
pins: 1 VDD (power) "Power Supply", 2 ~{CS} (in) "Chip Select (active LOW).", 3 CLK (in) "Synchronous Clock for the Serial Data Input.", 4 SDI (in) "Serial Data Input. Data is clocked into the internal serial register on the rising edge of CLK.", 5 ~{LD} (in) "Loads the Internal DAC Register. NOTE: The DAC register is a transparent latch and is transparent when L\D\ is LOW (regardless of the state of C\S\ or CLK).", 6 ~{CLR} (in) "Asynchronous Input to Clear the DAC Register. When C\L\R\ is strobbed LOW, the DAC register is set to 000H and the output voltage to 0V.", 7 GND (power) "Ground", 8 VOUT (out) "Voltage Output. Fixed output voltage range of approximately 0V to 4.095V (1mV/LSB). The internal reference maintains this output range over time,temperature, and power supply variations (within the values defined in the (See Datasheet)"

## DAC7611UG4
designator U?
12-Bit Serial Input DAC, -40 to 85 degC, 8-pin SOIC (D8), Green (RoHS & no Sb/Br); Manufacturer: Texas Instruments; PartNumber: DAC7611UG4; DAC Channels: 1; Interface: Serial SPI; Power Consumption(Typ)(mW): 2.5; Resolution(Bits): 12; Settling Time(us): 7; SubFamily: Precision DAC (=<10MSPS); DatasheetVersion: SBAS075; PackageVersion: 4040047-3/M, 06/2011; PackageReference: D8; PackageDescription: 8-Pin Plastic Small Outline, Body 4.9 x 3.9 mm, Pitch 1.27 mm; Supplier 1: Digi-Key; Supplier Part Number 1: DAC7611UG4-ND; Supplier 2: Mouser; Supplier Part Number 2: 595-DAC7611UG4; DNL(Max)(+/-LSB): 1; Eco-Plan: Green (RoHS & no Sb/Br); Mounting Technology: Surface Mount; Code_JEDEC: MS-012; ComponentLink1Description: Manufacturer URL; ComponentLink1URL: http://www.ti.com/; ComponentLink2Description: Datasheet; ComponentLink2URL: http://www.ti.com/general/docs/lit/getliterature.tsp?genericPartNumber=DAC7611&fileType=pdf; ComponentLink3Description: Package Specification; ComponentLink3URL: http://www.ti.com/litv/pdf/msoi002j
footprint TI-D8_N (SOIC, 8-Leads, Body 4.9x3.9mm, Pitch 1.27mm, IPC Medium Density)
footprint TI-D8_L (SOIC, 8-Leads, Body 4.9x3.9mm, Pitch 1.27mm, IPC High Density)
footprint TI-D8_M (SOIC, 8-Leads, Body 4.9x3.9mm, Pitch 1.27mm, IPC Low Density)
pins: 1 VDD (power) "Power Supply", 2 ~{CS} (in) "Chip Select (active LOW).", 3 CLK (in) "Synchronous Clock for the Serial Data Input.", 4 SDI (in) "Serial Data Input. Data is clocked into the internal serial register on the rising edge of CLK.", 5 ~{LD} (in) "Loads the Internal DAC Register. NOTE: The DAC register is a transparent latch and is transparent when L\D\ is LOW (regardless of the state of C\S\ or CLK).", 6 ~{CLR} (in) "Asynchronous Input to Clear the DAC Register. When C\L\R\ is strobbed LOW, the DAC register is set to 000H and the output voltage to 0V.", 7 GND (power) "Ground", 8 VOUT (out) "Voltage Output. Fixed output voltage range of approximately 0V to 4.095V (1mV/LSB). The internal reference maintains this output range over time,temperature, and power supply variations (within the values defined in the (See Datasheet)"

## DAC7612U
designator U?
Dual, 12-Bit Serial Input DAC, -40 to 85 degC, 8-pin SOIC (D8), Green (RoHS & no Sb/Br); Manufacturer: Texas Instruments; PartNumber: DAC7612U; DAC Channels: 2; DNL(Max)(+/-LSB): 1; Interface: Serial SPI; Power Consumption(Typ)(mW): 3.5; Resolution(Bits): 12; Settling Time(us): 7; SubFamily: Precision DAC (=<10MSPS); DatasheetVersion: SBAS106; PackageVersion: 4040047-3/M, 06/2011; PackageReference: D8; PackageDescription: 8-Pin Plastic Small Outline, Body 4.9 x 3.9 mm, Pitch 1.27 mm; Supplier 1: Digi-Key; Supplier Part Number 1: DAC7612U-ND; Supplier 2: Farnell; Supplier Part Number 2: 1703252; Supplier 3: Newark; Supplier Part Number 3: 96K4485; Supplier 4: Mouser; Supplier Part Number 4: 595-DAC7612U; Eco-Plan: Green (RoHS & no Sb/Br); INL(Max)(+/-LSB): 2; Mounting Technology: Surface Mount; Code_JEDEC: MS-012; ComponentLink1Description: Manufacturer URL; ComponentLink1URL: http://www.ti.com/; ComponentLink2Description: Datasheet; ComponentLink2URL: http://www.ti.com/general/docs/lit/getliterature.tsp?genericPartNumber=DAC7612&fileType=pdf; ComponentLink3Description: Package Specification; ComponentLink3URL: http://www.ti.com/litv/pdf/msoi002j
footprint TI-D8_N (SOIC, 8-Leads, Body 4.9x3.9mm, Pitch 1.27mm, IPC Medium Density)
footprint TI-D8_L (SOIC, 8-Leads, Body 4.9x3.9mm, Pitch 1.27mm, IPC High Density)
footprint TI-D8_M (SOIC, 8-Leads, Body 4.9x3.9mm, Pitch 1.27mm, IPC Low Density)
pins: 1 SDI (in) "Serial Data Input. Data is clocked into the internal serial register on the rising edge of CLK.", 2 CLK (in) "Synchronous Clock for the Serial Data Input.", 3 ~{LOADDACS} (in) "S Loads the internal DAC registers. All DAC registers are transparent latches and are transparent when L\O\A\D\D\A\C\S\ is LOW (regardless of the state of C\S\ or CLK).", 4 ~{CS} (in) "Chip Select. Active LOW", 5 VOUTB (out) "DAC B Output Voltage", 6 GND (power) "Ground", 7 VDD (power) "Positive Power Supply", 8 VOUTA (out) "DAC A Output Voltage"